# EAGLE library part NCP380 (library laforge)
ONsemi NCP380, NCV380 Fixed/Adjustible Current-Limiting Power-Distribution Switches
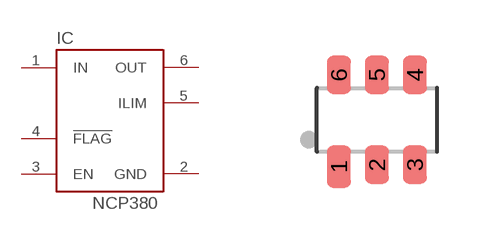
[diagram p34: symbol with the pads of TSOP-6; footprint TSOP-6]

Designator prefix IC

## NCP380  [TSOP-6]
1  IN  pas
2  GND  pas
3  EN  in
4  !FLAG  in
5  ILIM  pas
6  OUT  pwr

## Footprint TSOP-6 (pad centres in mm)
TSOP-6 CAS E318G-02 ISSUE V (ON Semiconductor)
smd 0.6 x 1.05: 1 -0.95,-1.175
smd 0.6 x 0.95: 2 0,-1.125; 3 0.95,-1.125; 4 0.95,1.125; 5 0,1.125; 6 -0.95,1.125